# Altium schematic symbol library 74LS157.SchLib: 1 symbol
Pins are listed as number, name and electrical type; pins without a type are passive.

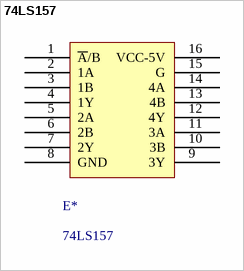
[diagram p0: symbol 74LS157]

## 74LS157
designator E*
Supplier 1: Mouser; Supplier Part Number 1: 595-CD74HCT157E
footprint DIP16
pins: 1 ~{A}/B, 2 1A, 3 1B, 4 1Y, 5 2A, 6 2B, 7 2Y, 8 GND, 9 3Y, 10 3B, 11 3A, 12 4Y, 13 4B, 14 4A, 15 G, 16 VCC-5V